# Altium footprint library LEDs.PcbLib: 18 footprints (part 1 of 2)
Each footprint in its own frame and in the unit in brackets; x right, y up, seen from the top. Pads: shape width x height; smd on the part's side, far side on the other; paste and mask are expansions set on the pad; w line width, h text height; cw(c..) or ccw(c..) is an arc to the next point about the centre after c.
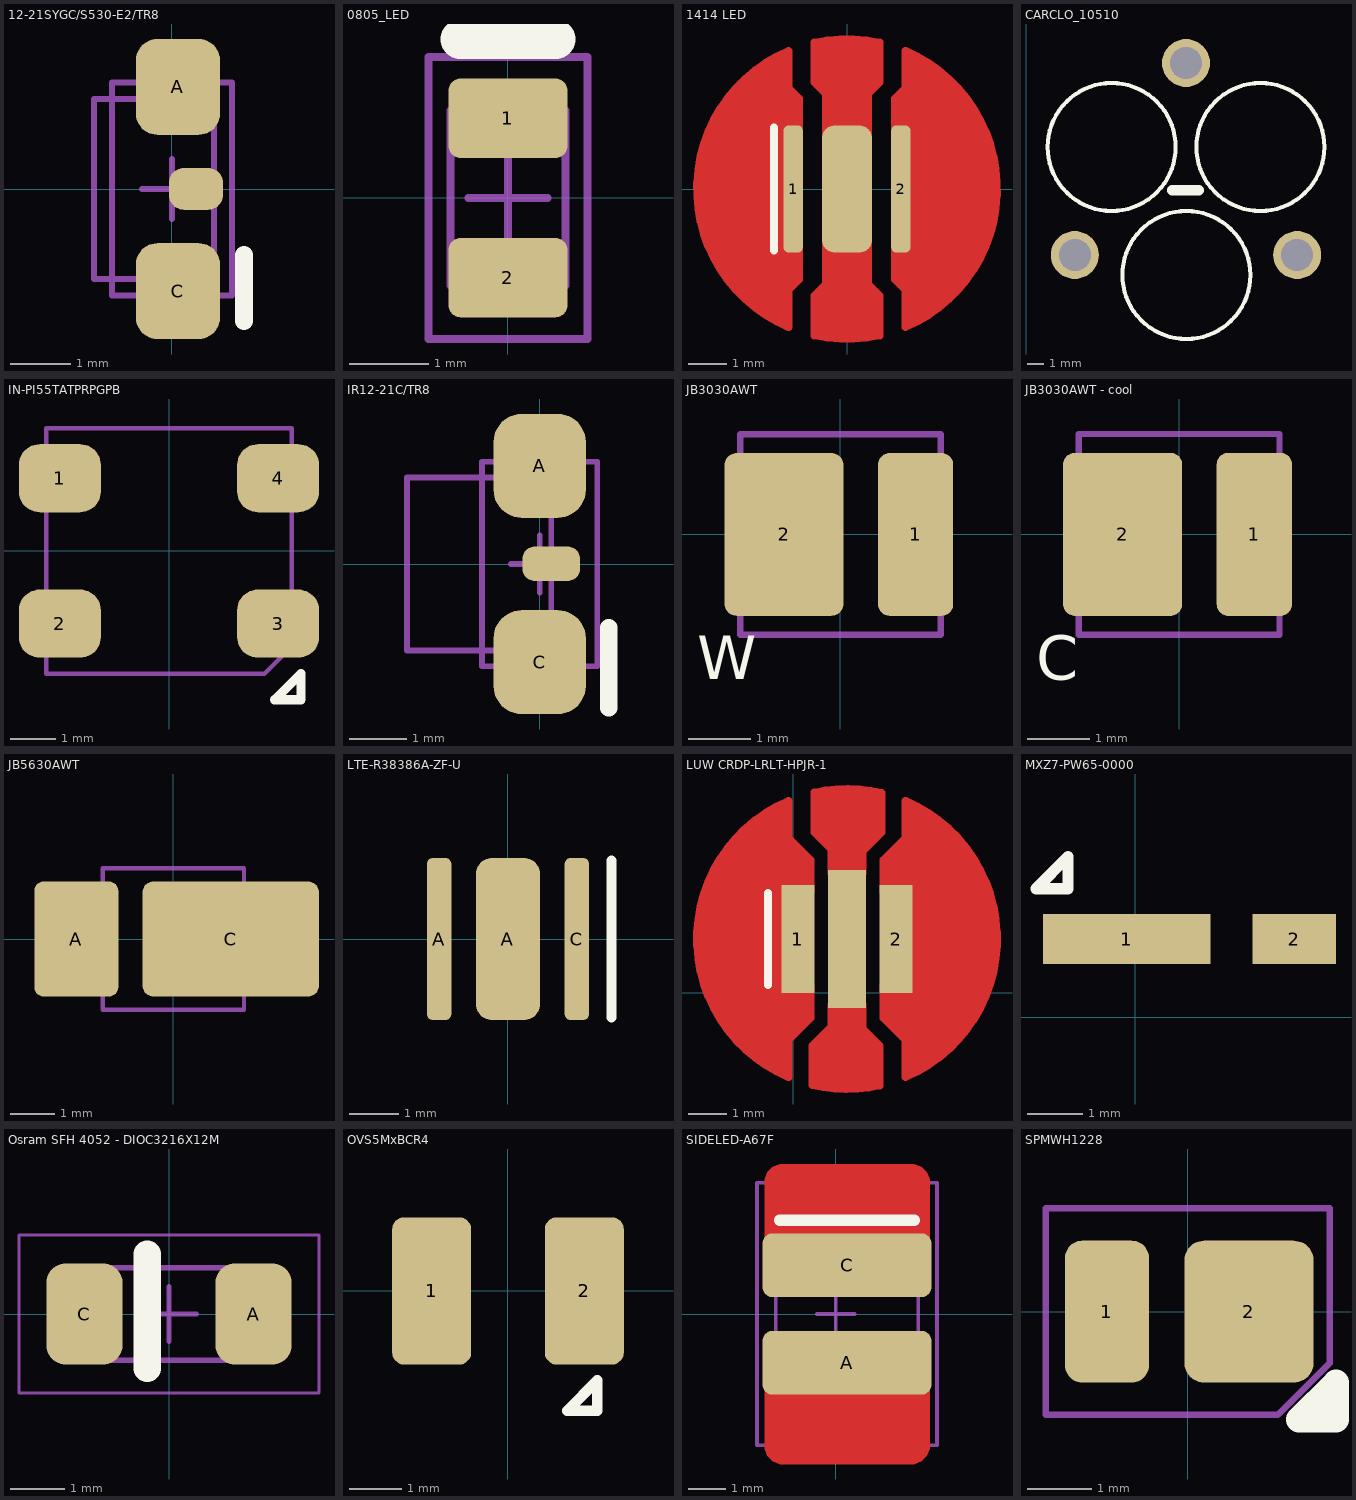
[diagram p0: the footprints below, top view; thin cyan lines are the x and y axes]

## 12-21SYGC/S530-E2/TR8 [mm]
height 0.8
pads (3):
  rrect50% 1.4x1.6 smd paste-0.03: A(0.1,1.702) C(0.1,-1.702)
  rrect70% 0.9x0.7 smd paste-99: ""(0.4,0.002)
Top Overlay:
  lines w0.3: 1.2,-2.2 1.2,-1.1
Mechanical 13:
  lines w0.1: -1.3,-1.5 -1.3,1.5 0.7,1.5 0.7,-1.5 -1.3,-1.5
Mechanical 15:
  lines w0.1: -0.5,0 0.5,0 ; 0,-0.5 0,0.5 ; -1,-1.775 -1,1.775 1,1.775 1,-1.775 -1,-1.775
3D body "12-21SYGC-S530-E2-TR8.stp": height 1, standoff 0, extent -1.297,-1.5 0.694,1.5

## 0805_LED [mm] "Chip Capacitor, 2-Leads, Body 2.0x1.3mm, IPC Medium Density"
height 0.8
pads (2):
  rrect30% 1.5x1 smd paste-2.515: 1(0,1.002) 2(0,-1.002)
Top Overlay:
  lines w0.5: -0.6,2 0.6,2
Top Paste:
  region: 0.7,-0.65 0.7,-1.35 0.6,-1.45 -0.6,-1.45 -0.7,-1.35 -0.7,-0.65 -0.6,-0.55 0,-0.8 0.6,-0.55
  region: -0.7,0.65 -0.7,1.35 -0.6,1.45 0.6,1.45 0.7,1.35 0.7,0.65 0.6,0.55 0,0.8 -0.6,0.55
Mechanical 13:
  lines w0.1: -0.725,-1.1 -0.725,1.1 0.725,1.1 0.725,-1.1 -0.725,-1.1
Mechanical 15:
  lines w0.1: -0.5,0 0.5,0 ; 0,-0.5 0,0.5 ; -1,-1.775 -1,1.775 1,1.775 1,-1.775 -1,-1.775
3D body: height 0.8, standoff 0, extent -0.725,-1.1 0.725,1.1

## 1414 LED [mm] "Standard thermally relieved footprint for domed 1414 (3535) 1W LEDs."
pads (3):
  rrect50% 0.5x3.3 smd paste-0.03 mask+0.02: 1(-1.4,0) 2(1.4,0)
  rrect50% 1.3x3.3 smd paste-0.2 mask+0.02: ""(0,0)
Top Layer:
  region: 1.25,-2.35 1.523,-2.623 1.523,-3.59 1.786,-3.479 2.275,-3.181 2.714,-2.815 3.096,-2.389 3.411,-1.912 3.653,-1.394 3.818,-0.846 3.9,-0.281 3.9,0.291 3.815,0.857 3.65,1.404 3.406,1.921 3.089,2.398 2.707,2.822 2.266,3.187 1.777,3.483 1.513,3.594 1.513,2.613 1.25,2.35
  region: -1.513,-3.594 -1.777,-3.483 -2.266,-3.187 -2.707,-2.822 -3.089,-2.398 -3.406,-1.921 -3.65,-1.404 -3.815,-0.857 -3.9,-0.291 -3.9,0.281 -3.818,0.846 -3.653,1.394 -3.411,1.912 -3.096,2.389 -2.714,2.815 -2.275,3.181 -1.786,3.479 -1.523,3.59 -1.523,2.623 -1.25,2.35 -1.25,-2.35 -1.513,-2.613
  region: -0.851,-3.806 -0.851,-2.776 -0.85,-2.775 -0.55,-2.475 -0.55,2.475 -0.85,2.775 -0.851,2.776 -0.851,3.806 -0.642,3.853 -0.215,3.9 0.215,3.9 0.642,3.853 0.851,3.806 0.851,2.776 0.85,2.775 0.55,2.475 0.55,-2.475 0.85,-2.775 0.851,-2.776 0.851,-3.806 0.642,-3.853 0.215,-3.9 -0.215,-3.9 -0.642,-3.853
  lines w0.2: -1.25,-2.35 -1.25,2.35 ; -0.85,-2.775 -0.55,-2.475 -0.55,0 -0.55,2.475 -0.85,2.775 -0.85,2.8 ; 0.85,-2.775 0.55,-2.475 0.55,0 0.55,2.475 0.85,2.775 ; 1.25,-2.35 1.25,2.35
  lines w0.203: -1.25,-2.35 -1.513,-2.613 -1.513,-3.594 cw(c0,0) -1.523,3.59 -1.523,2.623 -1.25,2.35 ; -0.851,-2.776 -0.851,-3.806 ccw(c0,0) 0.851,-3.806 0.851,-2.776 ; -0.851,2.776 -0.851,3.806 cw(c0,0) 0.851,3.806 0.851,2.776 ; 1.25,-2.35 1.523,-2.623 1.523,-3.59 ccw(c0,0) 1.513,3.594 1.513,2.613 1.25,2.35
Top Overlay:
  lines w0.203: -1.9,-1.6 -1.9,1.6
3D body "LH351B.stp": height 1.9, standoff -0.03, extent -1.75,-1.75 1.75,1.75

## CARCLO_10510 [mm]
pads (3):
  round 3 hole 2: ""(3.025,6.35) ""(9.975,18.35) ""(16.925,6.35)
Top Overlay:
  circle w0.254: c5.325,13.1 r4
  circle w0.254: c14.625,13.1 r4
  circle w0.254: c10,5.1 r4
  lines w0.635: 9.1,10.4 10.775,10.4
3D body "Carclo_10510.STEP": height 6.15, standoff -1.35, extent 0,0 19.971,20.326

## IN-PI55TATPRPGPB [mm]
pads (4):
  rrect60% 1.8x1.5 smd paste-0.04 mask+0.06: 1(-2.4,1.6) 2(-2.4,-1.6) 3(2.4,-1.6) 4(2.4,1.6)
Top Overlay:
  lines w0.2: 2.325,-3.275 2.9,-3.275 2.9,-2.7 2.325,-3.275
Mechanical 13:
  lines w0.1: -2.7,-2.7 2.1,-2.7 2.7,-2.1 2.7,2.7 -2.7,2.7 -2.7,-2.7
Assembly:
  text ".Designator" at -2.4,-0.2 h1.1
3D body: height 1.6, standoff 0, extent -2.5,-2.5 2.5,2.5

## IR12-21C/TR8 [mm]
height 0.8
pads (3):
  rrect60% 1.6x1.8 smd paste-0.03: A(0,1.702) C(0,-1.702)
  rrect70% 1x0.6 smd paste-99: ""(0.2,0.002)
Top Overlay:
  lines w0.3: 1.2,-2.5 1.2,-1.1
Mechanical 13:
  lines w0.1: -2.3,-1.5 0.2,-1.5 0.2,1.5 -2.3,1.5 -2.3,-1.5
Mechanical 15:
  lines w0.1: -0.5,0 0.5,0 ; 0,-0.5 0,0.5 ; -1,-1.775 1,-1.775 1,1.775 -1,1.775 -1,-1.775
3D body "XZxx56x-1.step": height 1, standoff 0, extent -2.292,-1.5 0.2,1.5

## JB3030AWT [mm]
pads (2):
  rrect30% 1.2x2.6 smd paste-0.05 mask+0.02: 1(1.2,0)
  rrect20% 1.9x2.6 smd paste-0.05 mask+0.02: 2(-0.9,0)
Top Overlay:
  text "W" at -2.29,-2.545 h1.2
Assembly:
  lines w0.1: -1.6,-1.6 1.6,-1.6 1.6,1.6 -1.6,1.6 -1.6,-1.6
  text ".Designator" at -2.025,-0.3 h1.1
3D body: height 0.52, standoff 0, extent -1.5,-1.5 1.5,1.5

## JB3030AWT - cool [mm]
pads (2):
  rrect30% 1.2x2.6 smd paste-0.05 mask+0.02: 1(1.2,0)
  rrect20% 1.9x2.6 smd paste-0.05 mask+0.02: 2(-0.9,0)
Top Overlay:
  text "C" at -2.28,-2.545 h1.2
Assembly:
  lines w0.1: -1.6,-1.6 -1.6,1.6 1.6,1.6 1.6,-1.6 -1.6,-1.6
  text ".Designator" at -2.025,-0.3 h1.1
3D body: height 0.52, standoff 0, extent -1.5,-1.5 1.5,1.5

## JB5630AWT [mm]
pads (2):
  rrect20% 1.9x2.6 smd paste-0.3 mask+0.02: A(-2.2,0)
  rrect18% 4x2.6 smd paste-0.4 mask+0.02: C(1.3,0)
Assembly:
  lines w0.1: -1.6,-1.6 -1.6,1.6 1.6,1.6 1.6,-1.6 -1.6,-1.6
  text ".Designator" at -2.025,-0.3 h1.1
3D body: height 0.52, standoff 0, extent -2.8,-1.5 2.8,1.5

## LTE-R38386A-ZF-U [mm] "Standard thermally relieved footprint for domed 1414 (3535) 1W LEDs."
pads (3):
  rrect50% 0.5x3.3 smd paste-0.03 mask+0.02: A(-1.4,0) C(1.4,0)
  rrect50% 1.3x3.3 smd paste-0.2 mask+0.02: A(0,0)
Top Overlay:
  lines w0.203: 2.1,-1.6 2.1,1.6
3D body "LTE-R38381-STR-U.stp": height 1.5, standoff 0, extent -1.925,-1.925 1.925,1.925

## LUW CRDP-LRLT-HPJR-1 [mm]
pads (3):
  rect 0.85x2.8 smd paste-0.05 mask+0.02: 1(0.125,1.4) 2(2.675,1.4)
  rect 1x3.6 smd paste-0.05 mask+0.02: ""(1.4,1.4)
Top Layer:
  region: -0.123,4.99 -0.123,4.023 0.45,3.45 0.45,-0.65 -0.113,-1.213 -0.113,-2.194 -0.231,-2.194 -0.45,-1.975 -0.65,-1.975 -1.15,-1.475 -1.25,-1.475 -1.25,-1.425 -1.925,-0.75 -1.925,-0.575 -2.1,-0.4 -2.1,-0.175 -2.275,0 -2.275,0.225 -2.425,0.375 -2.425,0.975 -2.475,1.025 -2.475,2.125 -2.375,2.225 -2.375,2.625 -2.175,2.825 -2.175,3.15 -1.775,3.55 -1.775,3.75 -0.9,4.625 -0.75,4.625 -0.5,4.875 -0.238,4.875
  region: 2.923,-2.19 2.923,-1.223 2.35,-0.65 2.35,3.45 2.913,4.013 2.913,4.994 3.031,4.994 3.25,4.775 3.45,4.775 3.95,4.275 4.05,4.275 4.05,4.225 4.725,3.55 4.725,3.375 4.9,3.2 4.9,2.975 5.075,2.8 5.075,2.575 5.225,2.425 5.225,1.825 5.275,1.775 5.275,0.675 5.175,0.575 5.175,0.175 4.975,-0.025 4.975,-0.35 4.575,-0.75 4.575,-0.95 3.7,-1.825 3.55,-1.825 3.3,-2.075 3.038,-2.075
  region: 1.8,-0.3 1.8,-0.925 2.251,-1.376 2.251,-2.406 1.969,-2.406 1.875,-2.5 0.606,-2.5 0.501,-2.395 0.501,-1.374 1,-0.875 1,-0.3
  region: 1,3.1 1,3.725 0.549,4.176 0.549,5.206 0.831,5.206 0.925,5.3 2.194,5.3 2.299,5.195 2.299,4.174 1.8,3.675 1.8,3.1
  lines w0.203: 0.45,0.175 0.45,-0.65 -0.113,-1.213 -0.113,-2.194 cw(c1.4,1.4) -0.123,4.99 -0.123,4.023 0.45,3.45 0.45,2.625 ; 1,-0.3 1,-0.875 0.501,-1.374 0.501,-2.395 ccw(c1.4,1.4) 2.251,-2.406 2.251,-1.376 1.8,-0.925 1.8,-0.3 ; 1,3.1 1,3.725 0.549,4.176 0.549,5.206 cw(c1.4,1.4) 2.299,5.195 2.299,4.174 1.8,3.675 1.8,3.1 ; 2.35,0.175 2.35,-0.65 2.923,-1.223 2.923,-2.19 ccw(c1.4,1.4) 2.913,4.994 2.913,4.013 2.35,3.45 2.35,2.625
Top Overlay:
  lines w0.203: -0.65,0.2 -0.65,2.6

## MXZ7-PW65-0000 [mm]
pads (2):
  rect 3x0.9 smd paste-0.05 mask+0.02: 1(-0.15,1.4)
  rect 1.5x0.9 smd paste-0.05 mask+0.02: 2(2.85,1.4)
Top Overlay:
  lines w0.2: -1.775,2.3 -1.2,2.875 -1.2,2.3 -1.775,2.3
3D body: height 0.7, standoff 0, extent -0.975,0.725 3.025,2.125

## Osram SFH 4052 - DIOC3216X12M [mm] "Chip Diode, 2-Leads, Body 3.20x1.60mm, IPC Low Density"
height 1.2
pads (2):
  rrect50% 1.4x1.85 smd paste-0.05 mask+0.1: A(1.55,0) C(-1.55,0)
Top Overlay:
  lines w0.5: -0.4,-1 -0.4,1.1
Mechanical 13:
  lines w0.1: -1.65,-0.85 1.65,-0.85 1.65,0.85 -1.65,0.85 -1.65,-0.85
Mechanical 15:
  lines w0.05: -2.75,-1.45 2.75,-1.45 2.75,1.45 -2.75,1.45 -2.75,-1.45
  lines w0.1: -0.5,0 0.5,0 ; 0,-0.5 0,0.5
3D body: height 1.2, standoff 0, extent 1.05,-0.85 1.65,0.85
3D body: height 1.2, standoff 0, extent -1.65,-0.85 -1.05,0.85
3D body: height 1.2, standoff 0, extent -1.05,-0.85 1.05,0.85

## OVS5MxBCR4 [mm]
pads (2):
  rrect30% 1.5x2.8 smd paste-0.05 mask+0.02: 1(-1.45,0) 2(1.45,0)
Top Overlay:
  lines w0.2: 1.125,-2.275 1.7,-1.7 1.7,-2.275 1.125,-2.275
3D body: height 1.4, standoff 0, extent -1.75,-1.775 1.75,1.725

## SIDELED-A67F [mm]
height 0.8
pads (2):
  rrect30% 4.5x1.7 smd paste-0.04: A(0.3,-1.3) C(0.3,1.3)
Top Layer:
  region: -1.9,1.7 -1.9,3.5 -1.9,3.599 -1.824,3.783 -1.683,3.924 -1.499,4 -1.4,4 2,4 2.099,4 2.283,3.924 2.424,3.783 2.5,3.599 2.5,3.5 2.5,1.7
  region: 2.5,-1.7 2.5,-3.5 2.5,-3.599 2.424,-3.783 2.283,-3.924 2.099,-4 2,-4 -1.4,-4 -1.499,-4 -1.683,-3.924 -1.824,-3.783 -1.9,-3.599 -1.9,-3.5 -1.9,-1.7
Top Overlay:
  lines w0.3: -1.5,2.5 2.1,2.5
Mechanical 13:
  lines w0.1: -1.6,-2 2.2,-2 2.2,2 -1.6,2 -1.6,-2
Mechanical 15:
  lines w0.1: -0.5,0 0.5,0 ; 0,-0.5 0,0.5 ; -2.1,-3.5 2.7,-3.5 2.7,3.5 -2.1,3.5 -2.1,-3.5
3D body "LS_A67F_20091130_geometry.SLDPRT": height 4.03, standoff 0, extent -1.565,-2 2.2,2

## SPMWH1228 [mm]
pads (2):
  rrect40% 1.3x2.2 smd paste-0.08 mask+0.02: 1(-1.25,0)
  rrect30% 2x2.2 smd paste-0.1 mask+0.02: 2(0.95,0)
Top Overlay:
  lines w0.4: 1.725,-1.675 2.3,-1.675 2.3,-1.1 1.725,-1.675
Assembly:
  lines w0.1: -2.2,-1.6 -2.2,1.6 2.2,1.6 2.2,-0.8 1.4,-1.6 -2.2,-1.6
  text ".Designator" at -2.025,-0.3 h1.1
3D body: height 0.65, standoff 0, extent -1.75,-1.4 1.75,1.4